# Altium footprint library PowerInductor.PcbLib: 4 footprints
Each footprint in its own frame and in the unit in brackets; x right, y up, seen from the top. Pads: shape width x height; smd on the part's side, far side on the other; paste and mask are expansions set on the pad; w line width, h text height; cw(c..) or ccw(c..) is an arc to the next point about the centre after c.
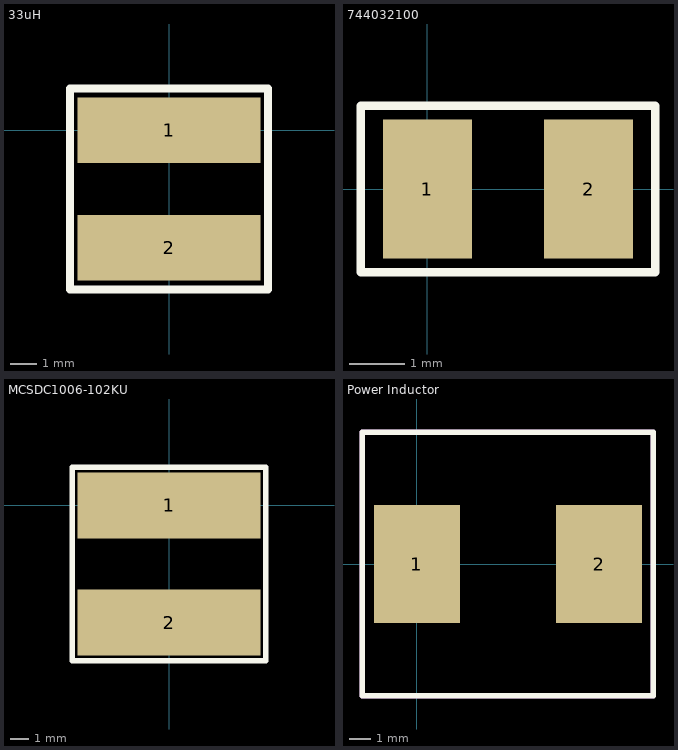
[diagram p0: the footprints below, top view; thin cyan lines are the x and y axes]

## 33uH [mm] "7x7x4 Dimensions"
pads (2):
  rect 7x2.5 smd: 1(0,0) 2(0,-4.5)
Top Overlay:
  lines w0.3: -3.8,-6.1 -3.8,1.6 3.8,1.6 3.8,-6.1 -3.8,-6.1

## 744032100 [mm]
pads (2):
  rect 1.6x2.5 smd: 1(0,0) 2(2.9,0)
Top Overlay:
  lines w0.15: -1.2,-1.5 4.1,-1.5 4.1,1.5 -1.2,1.5 -1.2,-1.5

## MCSDC1006-102KU [mm]
pads (2):
  rect 10x3.6 smd: 1(0,0) 2(0,-6.4)
Top Overlay:
  lines w0.3: -5.3,-8.5 5.3,-8.5 5.3,2.1 -5.3,2.1 -5.3,-8.5

## Power Inductor [mm]
height 0.203
pads (2):
  rect 4x5.5 smd: 1(-0.001,0) 2(8.499,0)
Top Overlay:
  lines w0.254: -2.555,-6.147 -2.555,6.147 11.034,6.147 11.034,-6.147 -2.555,-6.147
Mechanical 1:
  lines w0.254: -2.555,-6.147 -2.555,6.147 11.034,6.147 11.034,-6.147 -2.555,-6.147
3D body: height 8, standoff 0, extent -1.95,-6.35 10.55,6.15